# Altium footprint library Tantalum_B.PcbLib: 1 footprints
Each footprint in its own frame and in the unit in brackets; x right, y up, seen from the top. Pads: shape width x height; smd on the part's side, far side on the other; paste and mask are expansions set on the pad; w line width, h text height; cw(c..) or ccw(c..) is an arc to the next point about the centre after c.
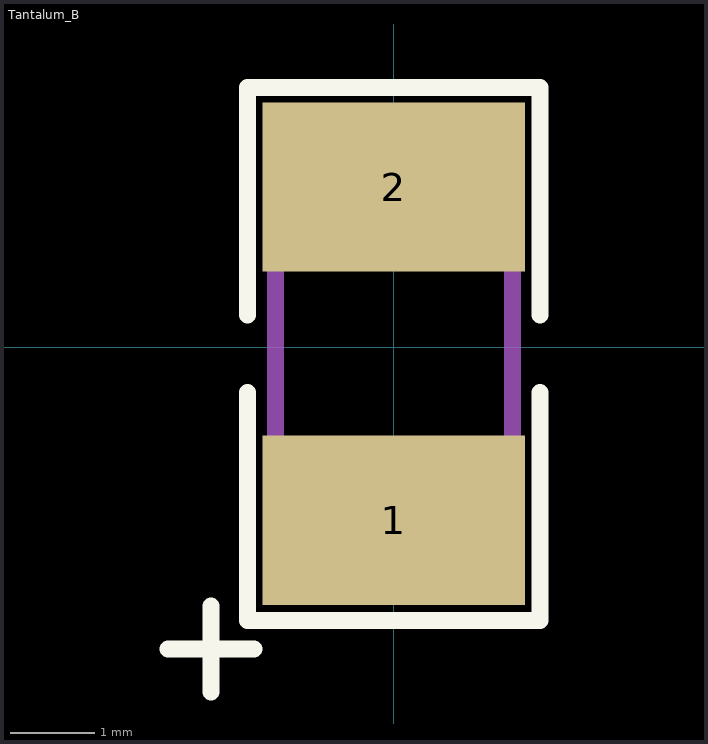
[diagram p0: the footprint, top view; thin cyan lines are the x and y axes]

## Tantalum_B [mm]
pads (2):
  rect 3.1x2 smd: 1(-0.002,-2.041) 2(-0.002,1.896)
Top Overlay:
  lines w0.2: -2.669,-3.565 -1.653,-3.565 ; -2.161,-4.073 -2.161,-3.057 ; -1.727,-0.533 -1.727,-3.226 1.727,-3.226 1.727,-0.533 ; -1.727,0.381 -1.727,3.073 1.727,3.073 1.727,0.381
Mechanical 3:
  lines w0.2: -1.397,1.722 -1.397,-1.778 1.403,-1.778 ; -1.397,1.778 1.403,1.778 1.403,-1.722
3D body "Tant Cap SMD size B _ 3528-21.stp": height 1.94, standoff 0.01, extent -1.451,-1.654 1.349,1.806